# Altium footprint library PcbLib.PcbLib: 20 footprints (part 1 of 2)
Each footprint in its own frame and in the unit in brackets; x right, y up, seen from the top. Pads: shape width x height; smd on the part's side, far side on the other; paste and mask are expansions set on the pad; w line width, h text height; cw(c..) or ccw(c..) is an arc to the next point about the centre after c.
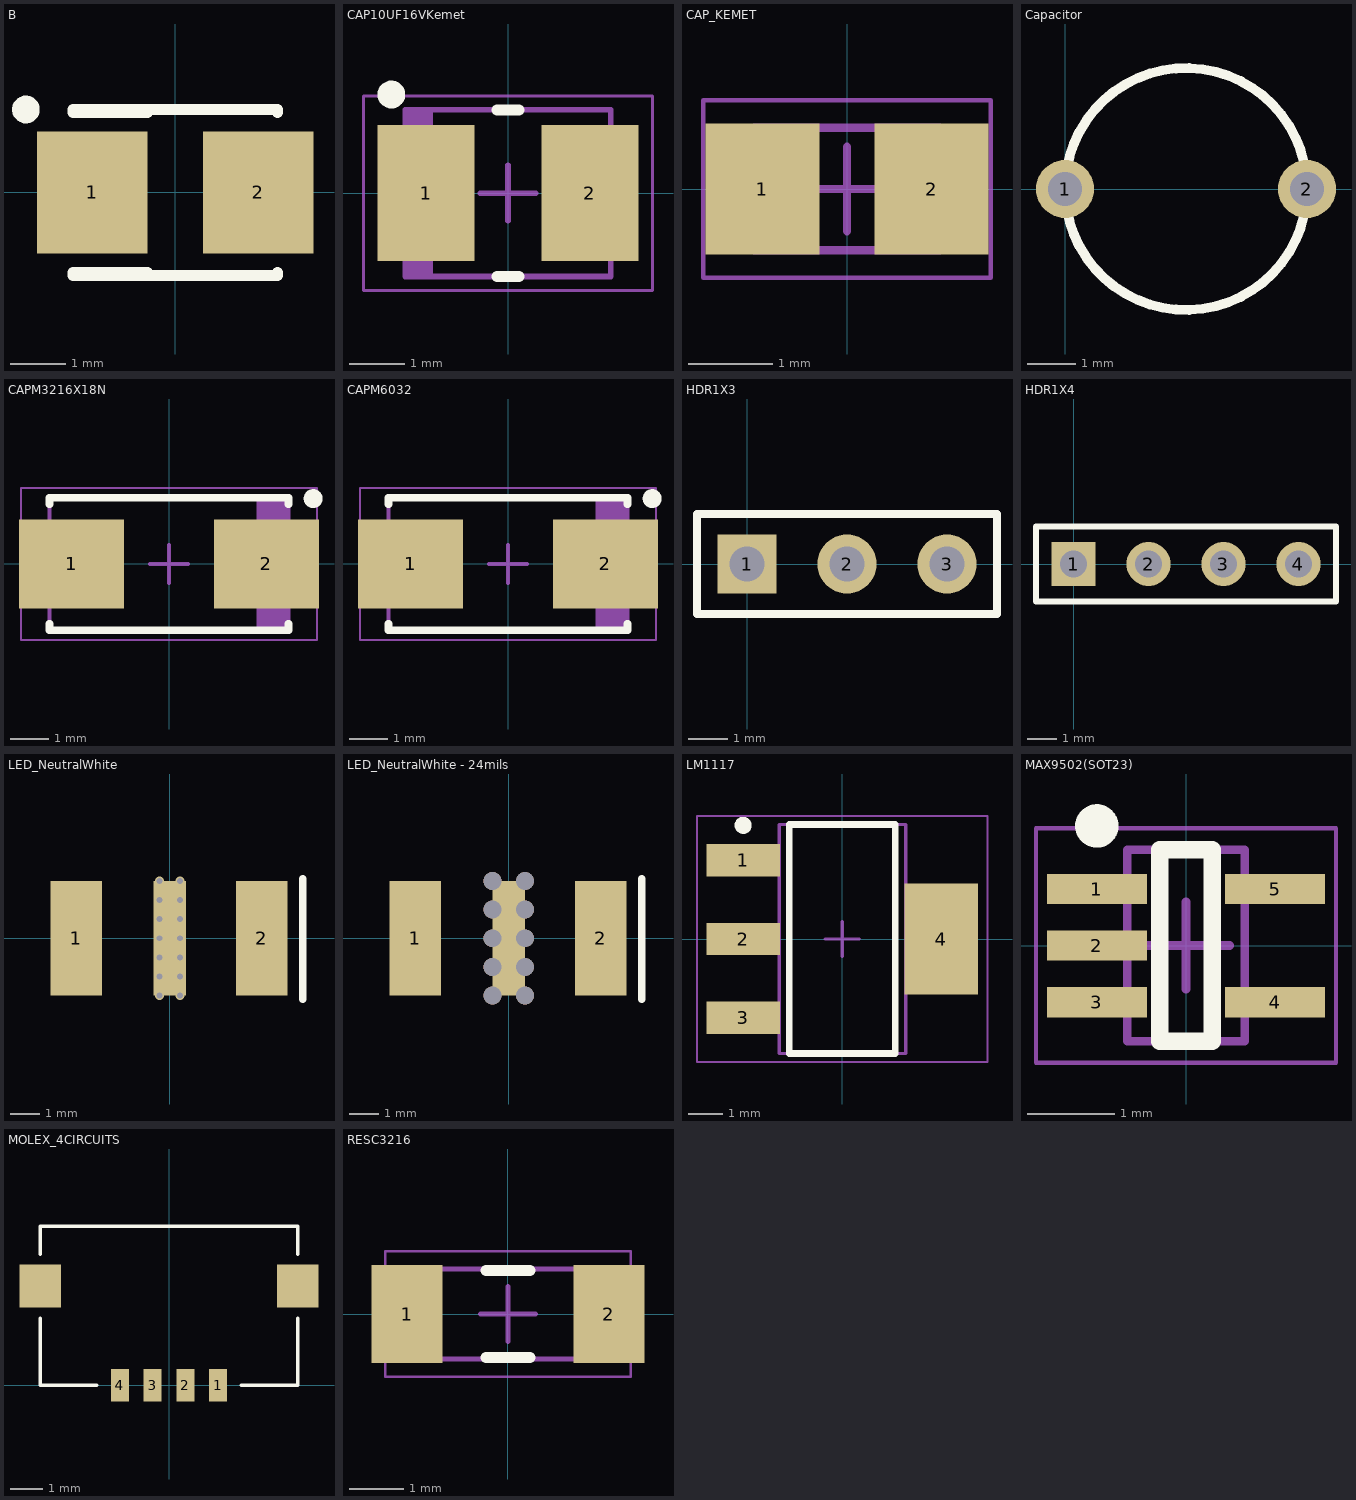
[diagram p0: the footprints below, top view; thin cyan lines are the x and y axes]

## B [mm] "Capacitor, SM Tantalum; Body 3.5 x 2.8 mm (LxW typ)"
height 2.1
pads (2):
  rect 2x2.2 smd: 1(-1.5,0) 2(1.5,0)
Top Overlay:
  circle w0.25: c-2.7,1.5 r0.125
  lines w0.2: -1.85,-1.5 1.85,-1.5 1.85,-1.45 ; -1.85,-1.45 -0.5,-1.45 ; -1.85,1.45 -0.5,1.45 ; -1.85,1.5 1.85,1.5 1.85,1.45

## CAP10UF16VKemet [mm] "Molded Capacitor, 2-Leads, Body 3.50x2.80mm, IPC Medium Density"
height 2.1
pads (2):
  rect 1.75x2.45 smd: 1(-1.475,0) 2(1.475,0)
Top Overlay:
  circle w0.25: c-2.1,1.775 r0.125
  lines w0.2: -0.2,-1.5 0.2,-1.5 ; -0.2,1.5 0.2,1.5
Mechanical 13:
  rectangle: -1.85,-1.5 -1.352,1.5
  lines w0.1: -1.85,-1.5 1.85,-1.5 1.85,1.5 -1.85,1.5 -1.85,-1.5
Mechanical 15:
  lines w0.05: -2.6,-1.75 2.6,-1.75 2.6,1.75 -2.6,1.75 -2.6,-1.75
  lines w0.1: -0.5,0 0.5,0 ; 0,-0.5 0,0.5
3D body "CAP10UF16VKemet.step": height 2.1, standoff 0, extent -2.07,-1.5 2.07,1.5

## CAP_KEMET [mm] "0.1uF, 0.47 uF"
height 0.9
pads (2):
  rect 1.35x1.55 smd: 1(-1,0) 2(1,0)
Mechanical 13:
  lines w0.1: -1.1,-0.725 1.1,-0.725 1.1,0.725 -1.1,0.725 -1.1,-0.725
Mechanical 15:
  lines w0.05: -1.7,-1.05 1.7,-1.05 1.7,1.05 -1.7,1.05 -1.7,-1.05
  lines w0.1: -0.5,0 0.5,0 ; 0,-0.5 0,0.5
3D body "CAP_KEMET0.1UF.step": height 0.9, standoff 0, extent -1.1,-0.725 1.1,0.725

## Capacitor [mm]
pads (2):
  round 1.2 hole 0.7: 1(0,0) 2(5,0)
Top Overlay:
  circle w0.2: c2.5,0 r2.5

## CAPM3216X18N [mm] "CAP22UFKemet"
height 2.8
pads (2):
  rect 2.77x2.35 smd: 1(-2.57,0) 2(2.57,0)
Top Overlay:
  circle w0.25: c3.8,1.725 r0.125
  lines w0.2: -3.15,-1.575 -3.15,-1.75 3.15,-1.75 3.15,-1.575 ; -3.15,1.575 -3.15,1.75 3.15,1.75 3.15,1.575
Mechanical 13:
  rectangle: 2.303,-1.75 3.15,1.75
  lines w0.1: -3.15,-1.75 3.15,-1.75 3.15,1.75 -3.15,1.75 -3.15,-1.75
Mechanical 15:
  lines w0.05: -3.9,-2 3.9,-2 3.9,2 -3.9,2 -3.9,-2
  lines w0.1: -0.5,0 0.5,0 ; 0,-0.5 0,0.5
3D body "CAPM3216X18N.step": height 2.8, standoff 0, extent -3.37,-1.75 3.37,1.75

## CAPM6032 [mm]
height 2.8
pads (2):
  rect 2.77x2.35 smd: 1(-2.57,0) 2(2.57,0)
Top Overlay:
  circle w0.25: c3.8,1.725 r0.125
  lines w0.2: -3.15,-1.575 -3.15,-1.75 3.15,-1.75 3.15,-1.575 ; -3.15,1.575 -3.15,1.75 3.15,1.75 3.15,1.575
Mechanical 13:
  rectangle: 2.303,-1.75 3.15,1.75
  lines w0.1: -3.15,-1.75 -3.15,1.75 3.15,1.75 3.15,-1.75 -3.15,-1.75
Mechanical 15:
  lines w0.05: -3.9,-2 -3.9,2 3.9,2 3.9,-2 -3.9,-2
  lines w0.1: -0.5,0 0.5,0 ; 0,-0.5 0,0.5
3D body "CAPM10UF6032.step": height 2.8, standoff 0, extent -3.37,-1.75 3.37,1.75

## HDR1X3 [mm]
pads (3):
  rect 1.5x1.5 hole 0.9: 1(0,0)
  round 1.5 hole 0.9: 2(2.54,0) 3(5.08,0)
Top Overlay:
  lines w0.2: -1.27,-1.27 6.35,-1.27 6.35,1.27 -1.27,1.27 -1.27,-1.27

## HDR1X4 [mm]
pads (4):
  rect 1.5x1.5 hole 0.9: 1(0,0)
  round 1.5 hole 0.9: 2(2.54,0) 3(5.08,0) 4(7.62,0)
Top Overlay:
  lines w0.2: -1.27,-1.27 8.89,-1.27 8.89,1.27 -1.27,1.27 -1.27,-1.27

## LED_NeutralWhite [mm] "LED XLAMP NEUTRAL WHT 4000K 2SMD"
pads (3):
  rect 1.75x3.9 smd: 1(-3.175,0) 2(3.125,0)
  rect 1.1x3.9 smd: ""(0,0)
via 0.35,-1.95 diameter 0.3 hole 0.2
via -0.35,-1.3 diameter 0.3 hole 0.2
via 0.35,-1.3 diameter 0.3 hole 0.2
via 0.35,-0.65 diameter 0.3 hole 0.2
via 0.35,0 diameter 0.3 hole 0.2
via 0.35,0.65 diameter 0.3 hole 0.2
via 0.35,1.3 diameter 0.3 hole 0.2
via 0.35,1.95 diameter 0.3 hole 0.2
via -0.35,-1.95 diameter 0.3 hole 0.2
via -0.35,-0.65 diameter 0.3 hole 0.2
via -0.35,0 diameter 0.3 hole 0.2
via -0.35,0.65 diameter 0.3 hole 0.2
via -0.35,1.3 diameter 0.3 hole 0.2
via -0.35,1.95 diameter 0.3 hole 0.2
Top Overlay:
  lines w0.254: 4.525,-2.075 4.525,2.025
3D body "xlamp_mx-x.stp": height 1.35, standoff 0, extent -3.25,-2.5 3.25,2.5

## LED_NeutralWhite - 24mils [mm] "LED XLAMP NEUTRAL WHT 4000K 2SMD"
pads (3):
  rect 1.75x3.9 smd: 1(-3.175,0) 2(3.125,0)
  rect 1.1x3.9 smd: ""(0,0)
via 0.55,-1.95 diameter 0.61 hole 0.61
via -0.55,-1.95 diameter 0.61 hole 0.61
via 0.55,-0.975 diameter 0.61 hole 0.61
via 0.55,0 diameter 0.61 hole 0.61
via 0.55,0.975 diameter 0.61 hole 0.61
via 0.55,1.95 diameter 0.61 hole 0.61
via -0.55,-0.975 diameter 0.61 hole 0.61
via -0.55,0 diameter 0.61 hole 0.61
via -0.55,0.975 diameter 0.61 hole 0.61
via -0.55,1.95 diameter 0.61 hole 0.61
Top Overlay:
  lines w0.254: 4.525,-2.075 4.525,2.025
3D body "xlamp_mx-x.stp": height 1.35, standoff 0, extent -3.25,-2.5 3.25,2.5

## LM1117 [mm] "SOT223, 4-Leads, Body 6,50x7,00mm (avg), Pitch 2,30mm, IPC Medium Density"
height 1.8
pads (4):
  rect 2.15x0.95 smd: 1(-2.9,2.3) 2(-2.9,0) 3(-2.9,-2.3)
  rect 2.15x3.25 smd: 4(2.9,0)
Top Overlay:
  circle w0.25: c-2.9,3.325 r0.125
  lines w0.2: -1.55,-3.35 -1.55,3.35 1.55,3.35 1.55,-3.35 -1.55,-3.35
Mechanical 13:
  lines w0.1: -1.85,-3.35 -1.85,3.35 1.85,3.35 1.85,-3.35 -1.85,-3.35
Mechanical 15:
  lines w0.05: -4.25,-3.6 -4.25,3.6 4.25,3.6 4.25,-3.6 -4.25,-3.6
  lines w0.1: -0.5,0 0.5,0 ; 0,-0.5 0,0.5
3D body "LM1117.step": height 1.8, standoff 0, extent -3.5,-3.35 3.5,3.35

## MAX9502(SOT23) [mm] "SOT23, 5-Leads, Body 2.00x2.10mm, Pitch 0.65mm, IPC Medium Density"
height 1.1
pads (5):
  rect 1.15x0.35 smd: 1(-1.025,0.65) 2(-1.025,0) 3(-1.025,-0.65) 4(1.025,-0.65) 5(1.025,0.65)
Top Overlay:
  circle w0.25: c-1.025,1.375 r0.125
  lines w0.2: -0.3,-1.1 0.3,-1.1 0.3,1.1 -0.3,1.1 -0.3,-1.1
Mechanical 13:
  lines w0.1: -0.675,-1.1 -0.675,1.1 0.675,1.1 0.675,-1.1 -0.675,-1.1
Mechanical 15:
  lines w0.05: -1.725,-1.35 -1.725,1.35 1.725,1.35 1.725,-1.35 -1.725,-1.35
  lines w0.1: -0.5,0 0.5,0 ; 0,-0.5 0,0.5
3D body "MAX9502(SOT23).step": height 1.1, standoff 0, extent -1.1,-1.1 1.1,1.1

## MOLEX_4CIRCUITS [mm]
pads (6):
  rect 0.55x1 smd: 1(1.5,0) 2(0.5,0) 3(-0.5,0) 4(-1.5,0)
  rect 1.26x1.3 smd: ""(-3.925,3.03) ""(3.925,3.03)
Top Overlay:
  lines w0.1: -3.925,2.05 -3.925,0 -2.2,0 ; -3.925,4 -3.925,4.85 3.925,4.85 3.925,4 ; 2.2,0 3.925,0 3.925,2.05
3D body "5037630491.stp": height 1.48, standoff -0.02, extent -4.3,-0.315 4.3,4.875

## PCBComponent_1 - duplicate [mm]

## RES_16 [mm]

## RESC3216 [mm] "Chip Resistor, 2-Leads, Body 3.13x1.55mm, IPC Medium Density"
height 0.7
pads (2):
  rect 1.3x1.8 smd: 1(-1.85,0) 2(1.85,0)
Top Overlay:
  lines w0.2: -0.4,-0.8 0.4,-0.8 ; -0.4,0.8 0.4,0.8
Mechanical 13:
  lines w0.1: -1.625,-0.825 1.625,-0.825 1.625,0.825 -1.625,0.825 -1.625,-0.825
Mechanical 15:
  lines w0.05: -2.25,-1.15 2.25,-1.15 2.25,1.15 -2.25,1.15 -2.25,-1.15
  lines w0.1: -0.5,0 0.5,0 ; 0,-0.5 0,0.5
3D body "RESC3216.step": height 0.7, standoff 0, extent -1.625,-0.825 1.625,0.825